# Altium footprint library Connector.PcbLib: 88 footprints (part 2 of 6)
Each footprint in its own frame and in the unit in brackets; x right, y up, seen from the top. Pads: shape width x height; smd on the part's side, far side on the other; paste and mask are expansions set on the pad; w line width, h text height; cw(c..) or ccw(c..) is an arc to the next point about the centre after c.
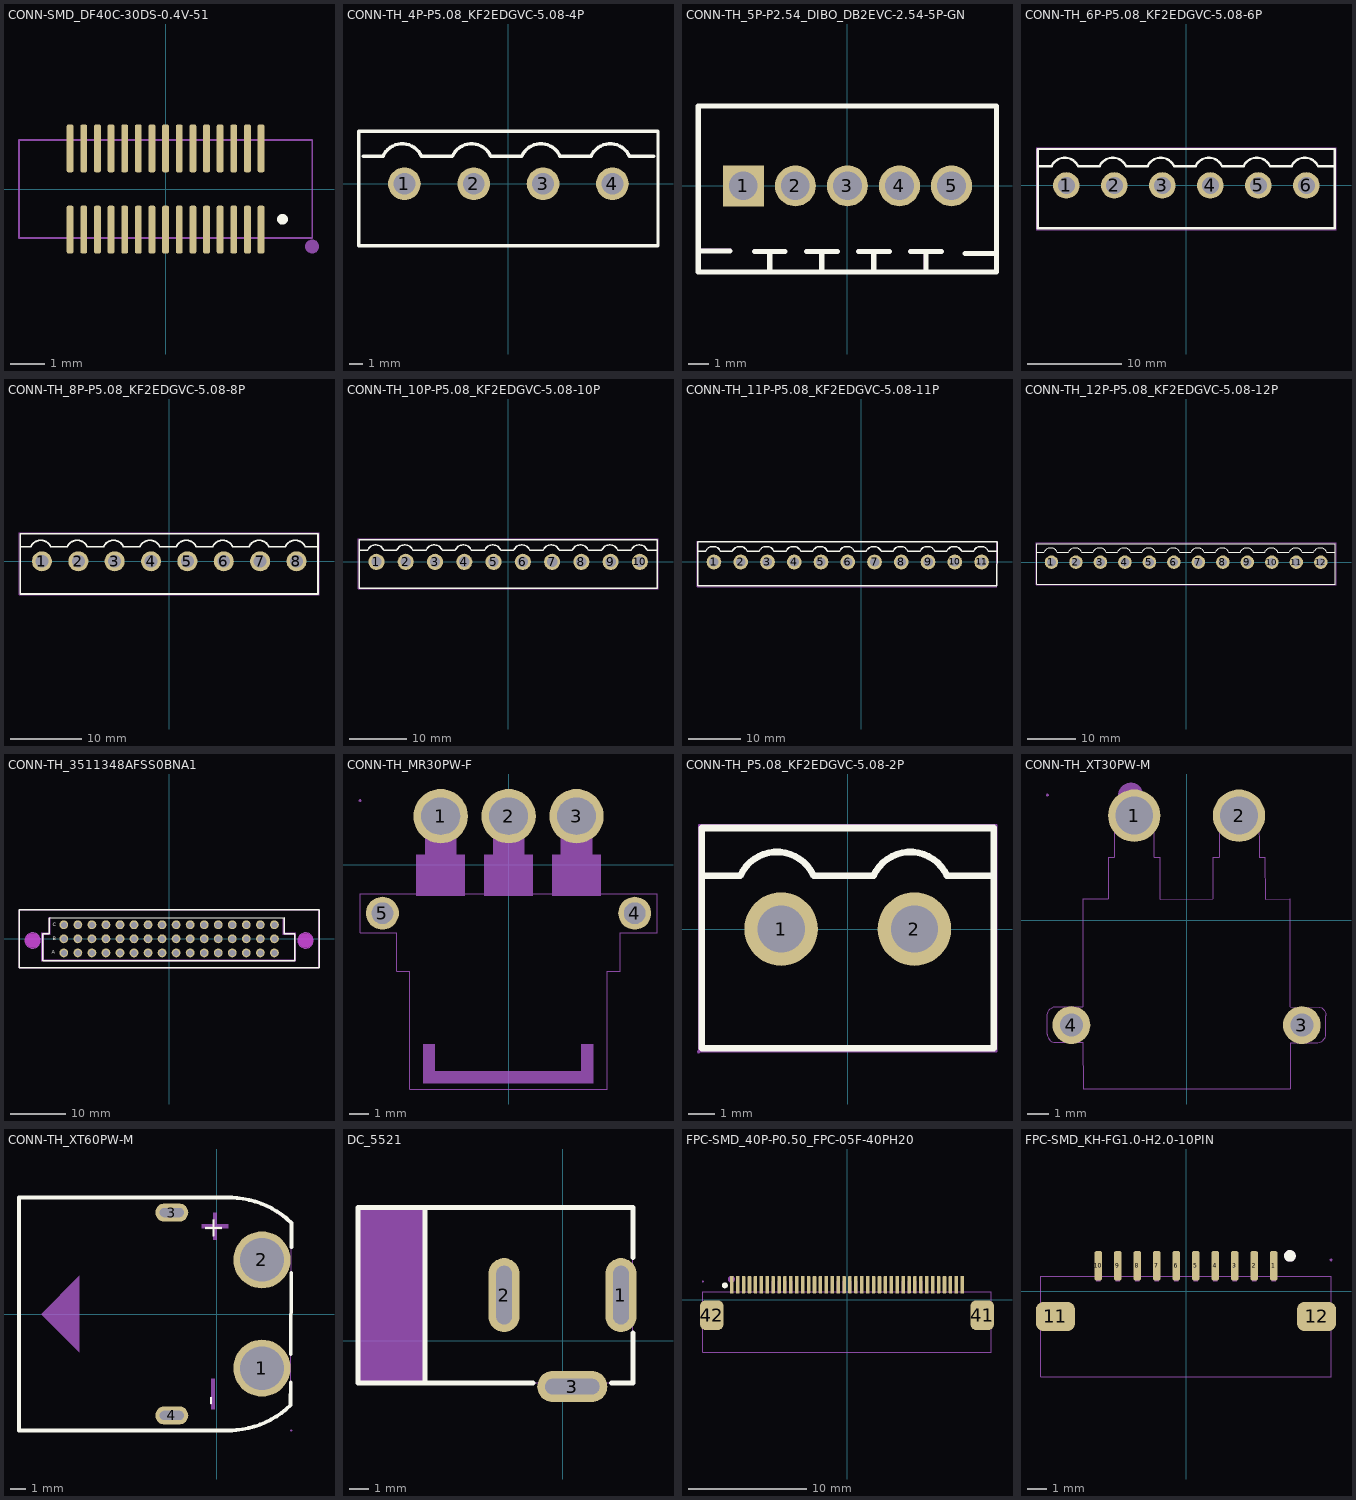
[diagram p1: the footprints below, top view; thin cyan lines are the x and y axes]

## CONN-SMD_DF40C-30DS-0.4V-51 [mm] "母座"
pads (30):
  rrect50% 0.2x1.4 smd paste+0 mask+0.05: 1(2.8,-1.19) 2(2.8,1.19) 3(2.4,-1.19) 4(2.4,1.19) 5(2,-1.19) 6(2,1.19) 7(1.6,-1.19) 8(1.6,1.19) 9(1.2,-1.19) 10(1.2,1.19) 11(0.8,-1.19) 12(0.8,1.19) 13(0.4,-1.19) 14(0.4,1.19) 15(0,-1.19) 16(0,1.19) 17(-0.4,-1.19) 18(-0.4,1.19) 19(-0.8,-1.19) 20(-0.8,1.19) 21(-1.2,-1.19) 22(-1.2,1.19) 23(-1.6,-1.19) 24(-1.6,1.19) 25(-2,-1.19) 26(-2,1.19) 27(-2.4,-1.19) 28(-2.4,1.19) 29(-2.8,-1.19) 30(-2.8,1.19)
Top Overlay:
  circle w0.254: c3.429,-0.889 r0.032
Mechanical 15:
  drawing of 35 lines, arcs and shapes, not listed
3D body "2.step": height 1.42, standoff -0.03, extent -4.3,-1.69 4.301,1.69

## CONN-TH_4P-P5.08_KF2EDGVC-5.08-4P [mm]
pads (4):
  round 2.4 hole 1.6 paste-2539.97 mask+0.051: 1(-7.62,0) 2(-2.54,0) 3(2.54,0) 4(7.62,0)
Top Overlay:
  lines w0.254: -10.64,2.032 -9.177,2.032 cw(c-7.78,1.407) -6.383,2.032 -4.097,2.032 cw(c-2.7,1.407) -1.303,2.032 0.983,2.032 cw(c2.38,1.407) 3.777,2.032 6.063,2.032 cw(c7.46,1.407) 8.857,2.032 10.64,2.032 ; 10.64,-4.55 10.96,-4.55 10.96,3.85 10.64,3.85 -10.64,3.85 -10.96,3.85 -10.96,-4.55 -10.64,-4.55 10.64,-4.55 ; 10.64,-4.55 10.64,-4.55
Mechanical 15:
  region: -10.9,-4.55 -10.9,-4.525 -10.935,-4.49 -10.985,-4.49 -11.02,-4.525 -11.02,-4.55 -11.02,-4.575 -10.985,-4.61 -10.935,-4.61 -10.9,-4.575 -10.9,-4.55
  region: -8.12,0.5 -7.12,0.5 -7.12,-0.5 -8.12,-0.5
  region: -3.04,0.5 -2.04,0.5 -2.04,-0.5 -3.04,-0.5
  region: 2.04,0.5 3.04,0.5 3.04,-0.5 2.04,-0.5
  region: 7.12,0.5 8.12,0.5 8.12,-0.5 7.12,-0.5
  lines w0.051: -10.96,-4.55 -10.96,3.85 10.96,3.85 10.96,-4.55 -10.96,-4.55

## CONN-TH_5P-P2.54_DIBO_DB2EVC-2.54-5P-GN [mm]
pads (5):
  rect 2x2 hole 1.4 paste-2539.97 mask+0.05: 1(-5.08,0)
  round 2 hole 1.4 paste-2539.97 mask+0.05: 2(-2.54,0) 3(0,0) 4(2.54,0) 5(5.08,0)
Top Overlay:
  lines w0.254: -7.23,-3.175 -5.73,-3.175 ; -6.48,-3.175 -6.434,-3.175 ; -4.54,-3.2 -3.04,-3.2 ; -3.79,-4.2 -3.79,-3.2 -3.744,-3.2 ; -2,-3.2 -0.5,-3.2 ; -1.25,-4.2 -1.25,-3.2 -1.204,-3.2 ; 0.54,-3.2 2.04,-3.2 ; 1.29,-4.2 1.29,-3.2 1.336,-3.2 ; 3.08,-3.2 4.58,-3.2 ; 3.83,-4.2 3.83,-3.2 3.876,-3.2 ; 5.75,-3.3 7.25,-3.3 ; 6.5,-3.3 6.546,-3.3 ; 7.28,-3.926 7.28,-4.2 ; 7.28,-4.2 7.28,3.9 -7.28,3.9 -7.28,-4.2 7.28,-4.2
Mechanical 6:
  region: 5.7,-3.2 7.3,-3.2 7.3,-3.4 5.7,-3.4
  region: -7.28,-3.075 -5.68,-3.075 -5.68,-3.275 -7.28,-3.275
  region: -4.59,-3.1 -2.99,-3.1 -2.99,-3.3 -4.59,-3.3
  region: -3.89,-3.1 -3.69,-3.1 -3.69,-4.1 -3.89,-4.1
  region: 3.03,-3.1 4.63,-3.1 4.63,-3.3 3.03,-3.3
  region: 3.73,-3.1 3.93,-3.1 3.93,-4.1 3.73,-4.1
  region: 0.49,-3.1 2.09,-3.1 2.09,-3.3 0.49,-3.3
  region: 1.19,-3.1 1.39,-3.1 1.39,-4.1 1.19,-4.1
  region: -1.35,-3.1 -1.15,-3.1 -1.15,-4.1 -1.35,-4.1
  region: -2.05,-3.1 -0.45,-3.1 -0.45,-3.3 -2.05,-3.3
Mechanical 15:
  region: -5.48,0.4 -4.68,0.4 -4.68,-0.4 -5.48,-0.4
  region: -2.94,0.4 -2.14,0.4 -2.14,-0.4 -2.94,-0.4
  region: -0.4,0.4 0.4,0.4 0.4,-0.4 -0.4,-0.4
  region: 2.14,0.4 2.94,0.4 2.94,-0.4 2.14,-0.4
  region: 4.68,0.4 5.48,0.4 5.48,-0.4 4.68,-0.4
  region: -7.22,-4.05 -7.22,-4.025 -7.255,-3.99 -7.305,-3.99 -7.34,-4.025 -7.34,-4.05 -7.34,-4.075 -7.305,-4.11 -7.255,-4.11 -7.22,-4.075 -7.22,-4.05
  lines w0.051: -7.28,-4.205 7.28,-4.205 7.28,3.895 -7.28,3.895 -7.28,-4.205

## CONN-TH_6P-P5.08_KF2EDGVC-5.08-6P [mm]
pads (6):
  round 2.8 hole 1.8 paste-2539.97 mask+0.051: 1(-12.7,0) 2(-7.62,0) 3(-2.54,0) 4(2.54,0) 5(7.62,0) 6(12.7,0)
Top Overlay:
  lines w0.254: -15.72,2.032 -14.257,2.032 cw(c-12.86,1.407) -11.463,2.032 -9.177,2.032 cw(c-7.78,1.407) -6.383,2.032 -4.097,2.032 cw(c-2.7,1.407) -1.303,2.032 0.983,2.032 cw(c2.38,1.407) 3.777,2.032 6.063,2.032 cw(c7.46,1.407) 8.857,2.032 11.143,2.032 cw(c12.54,1.407) 13.937,2.032 15.72,2.032 ; -15.72,-4.55 -15.72,3.85 15.72,3.85 15.72,-4.55 -15.72,-4.55
Mechanical 15:
  drawing of 11 lines, arcs and shapes, not listed

## CONN-TH_8P-P5.08_KF2EDGVC-5.08-8P [mm]
pads (8):
  round 2.8 hole 1.8 paste-2539.97 mask+0.051: 1(-17.78,0) 2(-12.7,0) 3(-7.62,0) 4(-2.54,0) 5(2.54,0) 6(7.62,0) 7(12.7,0) 8(17.78,0)
Top Overlay:
  lines w0.254: -20.8,2.032 -19.337,2.032 cw(c-17.94,1.407) -16.543,2.032 -14.257,2.032 cw(c-12.86,1.407) -11.463,2.032 -9.177,2.032 cw(c-7.78,1.407) -6.383,2.032 -4.097,2.032 cw(c-2.7,1.407) -1.303,2.032 0.983,2.032 cw(c2.38,1.407) 3.777,2.032 6.063,2.032 cw(c7.46,1.407) 8.857,2.032 11.143,2.032 cw(c12.54,1.407) 13.937,2.032 16.223,2.032 cw(c17.62,1.407) 19.017,2.032 ; 19.05,2.032 20.8,2.032 ; -20.8,-4.55 20.8,-4.55 20.8,3.85 -20.8,3.85 -20.8,-4.55
Mechanical 15:
  drawing of 13 lines, arcs and shapes, not listed

## CONN-TH_10P-P5.08_KF2EDGVC-5.08-10P [mm]
pads (10):
  round 2.8 hole 1.8 paste-2539.97 mask+0.051: 1(-22.86,0) 2(-17.78,0) 3(-12.7,0) 4(-7.62,0) 5(-2.54,0) 6(2.54,0) 7(7.62,0) 8(12.7,0) 9(17.78,0) 10(22.86,0)
Top Overlay:
  lines w0.254: -25.88,2.032 -24.417,2.032 cw(c-23.02,1.407) -21.623,2.032 -19.337,2.032 cw(c-17.94,1.407) -16.543,2.032 -14.257,2.032 cw(c-12.86,1.407) -11.463,2.032 -9.177,2.032 cw(c-7.78,1.407) -6.383,2.032 -4.097,2.032 cw(c-2.7,1.407) -1.303,2.032 0.983,2.032 cw(c2.38,1.407) 3.777,2.032 6.063,2.032 cw(c7.46,1.407) 8.857,2.032 11.143,2.032 cw(c12.54,1.407) 13.937,2.032 ; 13.97,2.032 16.256,2.032 cw(c17.653,1.407) 19.05,2.032 21.336,2.032 cw(c22.733,1.407) 24.13,2.032 25.877,2.032 ; -25.88,-4.55 25.88,-4.55 25.88,3.85 -25.88,3.85 -25.88,-4.55
Mechanical 15:
  drawing of 15 lines, arcs and shapes, not listed

## CONN-TH_11P-P5.08_KF2EDGVC-5.08-11P [mm]
pads (11):
  round 2.8 hole 1.8 paste-2539.97 mask+0.051: 1(-27.94,0) 2(-22.86,0) 3(-17.78,0) 4(-12.7,0) 5(-7.62,0) 6(-2.54,0) 7(2.54,0) 8(7.62,0) 9(12.7,0) 10(17.78,0) 11(22.86,0)
Top Overlay:
  lines w0.254: -30.96,2.032 -29.497,2.032 cw(c-28.1,1.407) -26.703,2.032 -24.417,2.032 cw(c-23.02,1.407) -21.623,2.032 -19.337,2.032 cw(c-17.94,1.407) -16.543,2.032 -14.257,2.032 cw(c-12.86,1.407) -11.463,2.032 -9.177,2.032 cw(c-7.78,1.407) -6.383,2.032 -4.097,2.032 cw(c-2.7,1.407) -1.303,2.032 0.983,2.032 cw(c2.38,1.407) 3.777,2.032 6.063,2.032 cw(c7.46,1.407) 8.857,2.032 ; 8.89,2.032 11.176,2.032 cw(c12.573,1.407) 13.97,2.032 16.256,2.032 cw(c17.653,1.407) 19.05,2.032 21.336,2.032 cw(c22.733,1.407) 24.13,2.032 ; 24.163,2.032 25.626,2.032 ; -30.96,-4.55 -30.96,3.85 25.781,3.85 25.781,-4.55 -30.96,-4.55
Mechanical 15:
  drawing of 16 lines, arcs and shapes, not listed

## CONN-TH_12P-P5.08_KF2EDGVC-5.08-12P [mm]
pads (12):
  round 2.8 hole 1.8 paste-2539.97 mask+0.051: 1(-27.94,0) 2(-22.86,0) 3(-17.78,0) 4(-12.7,0) 5(-7.62,0) 6(-2.54,0) 7(2.54,0) 8(7.62,0) 9(12.7,0) 10(17.78,0) 11(22.86,0) 12(27.94,0)
Top Overlay:
  lines w0.254: -30.96,2.032 -29.497,2.032 cw(c-28.1,1.407) -26.703,2.032 -24.417,2.032 cw(c-23.02,1.407) -21.623,2.032 -19.337,2.032 cw(c-17.94,1.407) -16.543,2.032 -14.257,2.032 cw(c-12.86,1.407) -11.463,2.032 -9.177,2.032 cw(c-7.78,1.407) -6.383,2.032 -4.097,2.032 cw(c-2.7,1.407) -1.303,2.032 0.983,2.032 cw(c2.38,1.407) 3.777,2.032 6.063,2.032 cw(c7.46,1.407) 8.857,2.032 ; 8.89,2.032 11.176,2.032 cw(c12.573,1.407) 13.97,2.032 16.256,2.032 cw(c17.653,1.407) 19.05,2.032 21.336,2.032 cw(c22.733,1.407) 24.13,2.032 26.416,2.032 cw(c27.813,1.407) 29.21,2.032 30.957,2.032 ; -30.96,-4.55 30.96,-4.55 30.96,3.85 -30.96,3.85 -30.96,-4.55
Mechanical 15:
  drawing of 17 lines, arcs and shapes, not listed

## CONN-TH_3511348AFSS0BNA1 [mm]
pads (48):
  round 1.6 hole 1.1 paste-2539.97 mask+0.051: A1(-19.05,-2.54) A2(-16.51,-2.54) A3(-13.97,-2.54) A4(-11.43,-2.54) A5(-8.89,-2.54) A6(-6.35,-2.54) A7(-3.81,-2.54) A8(-1.27,-2.54) A9(1.27,-2.54) A10(3.81,-2.54) A11(6.35,-2.54) A12(8.89,-2.54) A13(11.43,-2.54) A14(13.97,-2.54) A15(16.51,-2.54) A16(19.05,-2.54) B1(-19.05,0) B2(-16.51,0) B3(-13.97,0) B4(-11.43,0) B5(-8.89,0) B6(-6.35,0) B7(-3.81,0) B8(-1.27,0) B9(1.27,0) B10(3.81,0) B11(6.35,0) B12(8.89,0) B13(11.43,0) B14(13.97,0) B15(16.51,0) B16(19.05,0) C1(-19.05,2.54) C2(-16.51,2.54) C3(-13.97,2.54) C4(-11.43,2.54) C5(-8.89,2.54) C6(-6.35,2.54) C7(-3.81,2.54) C8(-1.27,2.54) C9(1.27,2.54) C10(3.81,2.54) C11(6.35,2.54) C12(8.89,2.54) C13(11.43,2.54) C14(13.97,2.54) C15(16.51,2.54) C16(19.05,2.54)
Top Overlay:
  lines w0.254: 20.8,3.4 20.8,3.8 -21.7,3.7 -21.654,0.9 -22.9,0.9 -22.9,-4 22.7,-4 22.7,0.9 20.8,0.9 20.8,3.7 ; -27.12,-5.25 -27.12,5.25 27.12,5.25 27.12,-5.25 -27.12,-5.25
  text "A" at -21.215,-2.736 h0.65
  text "C" at -21.082,2.251 h0.65
  text "B" at -21.082,-0.289 h0.65
Keep-Out Layer:
  board cut-out: 26.08,-0.3 26.08,-0.116 25.984,0.24 25.8,0.559 25.54,0.82 25.22,1.004 24.864,1.1 24.496,1.1 24.14,1.004 23.82,0.82 23.56,0.559 23.375,0.24 23.28,-0.116 23.28,-0.3 23.28,-0.485 23.375,-0.841 23.56,-1.16 23.82,-1.421 24.14,-1.605 24.496,-1.7 24.864,-1.7 25.22,-1.605 25.54,-1.421 25.8,-1.16 25.984,-0.841 26.08,-0.485 26.08,-0.3
  board cut-out: -23.28,-0.3 -23.28,-0.116 -23.375,0.24 -23.56,0.559 -23.82,0.82 -24.14,1.004 -24.496,1.1 -24.864,1.1 -25.22,1.004 -25.54,0.82 -25.8,0.559 -25.984,0.24 -26.08,-0.116 -26.08,-0.3 -26.08,-0.485 -25.984,-0.841 -25.8,-1.16 -25.54,-1.421 -25.22,-1.605 -24.864,-1.7 -24.496,-1.7 -24.14,-1.605 -23.82,-1.421 -23.56,-1.16 -23.375,-0.841 -23.28,-0.485 -23.28,-0.3
Mechanical 1:
  circle w0.005: c24.68,-0.3 r1.4
  circle w0.005: c-24.68,-0.3 r1.4
Mechanical 6:
  circle w1.3: c-24.68,-0.3 r0.65
  circle w1.3: c24.68,-0.3 r0.65
  region: 20.6,3.5 20.6,0.7 22.6,0.7 22.6,-3.8 -22.7,-3.8 -22.7,0.7 -21.5,0.7 -21.5,3.5 -21.5,3.9 -21.8,3.9 -21.8,1.1 -23.1,1.1 -23.1,-4.1 22.9,-4.1 22.9,1.1 20.9,1.1 20.9,3.6 20.6,3.6
Mechanical 15:
  drawing of 53 lines, arcs and shapes, not listed

## CONN-TH_MR30PW-F [mm]
pads (5):
  round 2.8 hole 1.9 slot 1.995 at 0 deg paste-2539.97 mask+0.05: 1(-3.5,2.5) 2(0,2.5) 3(3.5,2.5)
  round 1.7 hole 1.1 slot 1.1 at 0 deg paste-2539.97 mask+0.05: 4(6.5,-2.5) 5(-6.5,-2.5)
Mechanical 6:
  region: -4.4,-9.25 -4.4,-11.25 4.35,-11.25 4.35,-9.25 3.75,-9.25 3.75,-10.65 -3.8,-10.65 -3.8,-9.25
Mechanical 15:
  drawing of 21 lines, arcs and shapes, not listed
3D body "MR30PW-FB v2.step": height 4.84, standoff -2.03, extent -7.658,-11.621 7.658,3.592

## CONN-TH_P5.08_KF2EDGVC-5.08-2P [mm]
pads (2):
  round 2.8 hole 1.8 paste-2539.97 mask+0.051: 1(-2.54,0) 2(2.54,0)
Top Overlay:
  lines w0.254: -5.56,2.032 -4.097,2.032 cw(c-2.7,1.407) -1.303,2.032 0.983,2.032 cw(c2.38,1.407) 3.777,2.032 5.56,2.032 ; -5.56,-4.55 -5.56,3.85 5.56,3.85 5.56,-4.55 -5.56,-4.55
Mechanical 15:
  region: 3.34,0 3.34,0.105 3.285,0.309 3.18,0.491 3.031,0.64 2.849,0.745 2.645,0.8 2.435,0.8 2.231,0.745 2.049,0.64 1.9,0.491 1.795,0.309 1.74,0.105 1.74,0 1.74,-0.105 1.795,-0.309 1.9,-0.491 2.049,-0.64 2.231,-0.745 2.435,-0.8 2.645,-0.8 2.849,-0.745 3.031,-0.64 3.18,-0.491 3.285,-0.309 3.34,-0.105 3.34,0
  region: -1.74,0 -1.74,0.105 -1.795,0.309 -1.9,0.491 -2.049,0.64 -2.231,0.745 -2.435,0.8 -2.645,0.8 -2.849,0.745 -3.031,0.64 -3.18,0.491 -3.285,0.309 -3.34,0.105 -3.34,0 -3.34,-0.105 -3.285,-0.309 -3.18,-0.491 -3.031,-0.64 -2.849,-0.745 -2.645,-0.8 -2.435,-0.8 -2.231,-0.745 -2.049,-0.64 -1.9,-0.491 -1.795,-0.309 -1.74,-0.105 -1.74,0
  region: -5.627,-4.677 -5.627,-4.652 -5.662,-4.617 -5.712,-4.617 -5.747,-4.652 -5.747,-4.677 -5.747,-4.702 -5.712,-4.737 -5.662,-4.737 -5.627,-4.702 -5.627,-4.677
  lines w0.051: -5.687,-4.677 5.687,-4.677 5.687,3.977 -5.687,3.977 -5.687,-4.677

## CONN-TH_XT30PW-M [mm]
pads (4):
  round 2.5 hole 1.8: 1(-2.5,5) 2(2.5,5)
  round 1.8 hole 1.1: 3(5.5,-5) 4(-5.5,-5)
Mechanical 6:
  circle w0.6: c-2.667,5.969 r0.3
Mechanical 15:
  drawing of 94 lines, arcs and shapes, not listed
3D body "XT30PW-M.step": height 5.08, standoff -1.92, extent -6.65,-7.98 6.65,5.97

## CONN-TH_XT60PW-M [mm]
pads (4):
  round 3.8 hole 2.9 paste-2539.97 mask+0.05: 1(3,-3.6) 2(3,3.6)
  oval 2.2x1.2 hole 0.6 slot 1.6 at 0 deg paste-2539.97 mask+0.05: 3(-3,6.75) 4(-3,-6.75)
Top Overlay:
  lines w0.254: 0.889,-7.747 ccw(c0.746,-1.749) 4.917,-6.062 ; 0.937,7.747 cw(c0.794,1.749) 4.965,6.062 4.956,4.441 ; 1,-7.75 -13.166,-7.75 -13.166,7.75 1,7.75 ; 4.902,-5.994 4.909,-4.544 ; 4.919,-2.676 4.947,2.738
  text "+" at 0.364,4.953 h1.33
  text "-" at 0.11,-6.096 h1.33
Mechanical 6:
  region: -0.381,-4.318 -0.127,-4.318 -0.127,-6.35 -0.381,-6.35
  region: -0.254,6.731 0,6.731 0,5.969 0.762,5.969 0.762,5.715 0,5.715 0,4.953 -0.254,4.953 -0.254,5.715 -1.016,5.715 -1.016,5.969 -0.254,5.969
  region: -9.144,2.54 -9.144,-2.54 -11.684,0
Mechanical 15:
  region: -2.4,-6.55 -2.4,-6.95 -3.6,-6.95 -3.6,-6.55
  region: -2.4,6.95 -2.4,6.55 -3.6,6.55 -3.6,6.95
  region: 4,-3.6 4,-3.468 3.932,-3.214 3.8,-2.986 3.614,-2.8 3.386,-2.668 3.132,-2.6 2.868,-2.6 2.614,-2.668 2.386,-2.8 2.2,-2.986 2.068,-3.214 2,-3.468 2,-3.6 2,-3.732 2.068,-3.986 2.2,-4.214 2.386,-4.4 2.614,-4.532 2.868,-4.6 3.132,-4.6 3.386,-4.532 3.614,-4.4 3.8,-4.214 3.932,-3.986 4,-3.732 4,-3.6
  region: 4,3.6 4,3.732 3.932,3.986 3.8,4.214 3.614,4.4 3.386,4.532 3.132,4.6 2.868,4.6 2.614,4.532 2.386,4.4 2.2,4.214 2.068,3.986 2,3.732 2,3.6 2,3.468 2.068,3.214 2.2,2.986 2.386,2.8 2.614,2.668 2.868,2.6 3.132,2.6 3.386,2.668 3.614,2.8 3.8,2.986 3.932,3.214 4,3.468 4,3.6
  region: 5.013,-7.747 5.013,-7.722 4.978,-7.687 4.928,-7.687 4.893,-7.722 4.893,-7.747 4.893,-7.772 4.928,-7.807 4.978,-7.807 5.013,-7.772 5.013,-7.747
  lines w0.051: -13.166,-7.747 -13.166,7.747 1.016,7.747 1.778,7.62 2.794,7.366 3.81,6.858 4.826,6.096 4.953,5.969 4.902,-5.994 4.699,-6.223 3.937,-6.858 3.175,-7.239 2.159,-7.493 1.143,-7.747 -13.166,-7.747
3D body "3D_PCB1_2023-12-04.step": height 8.18, standoff -2.92, extent -13.147,-7.747 4.953,7.753

## DC_5521 [mm] "DC_5521"
pads (3):
  oval 1.6x3.8 hole 0.8 slot 3 at 90 deg mask+0.051: 1(3,2.35) 2(-3,2.35)
  oval 3.6x1.6 hole 0.8 slot 2.8 at 0 deg mask+0.051: 3(0.5,-2.35)
Top Overlay:
  lines w0.254: -10.5,-2.159 -1.513,-2.159 ; -10.5,-2.15 -10.5,6.85 3.606,6.85 3.606,4.283 ; -7.05,-2.15 -7.05,6.85 ; 2.513,-2.159 3.606,-2.159 3.606,0.416
Mechanical 6:
  region: -10.5,6.7 -7.1,6.7 -7.1,-2.1 -10.5,-2.1
Mechanical 15:
  region: 1.5,-2.5 -0.5,-2.5 -0.5,-2.145 1.5,-2.145
  region: -0.5,-2.2 1.5,-2.2 1.5,-2.5 -0.5,-2.5
  region: -2.85,1.1 -3.15,1.1 -3.15,3.6 -2.85,3.6
  region: 2.85,3.6 3.15,3.6 3.15,1.1 2.85,1.1
  region: 3.54,6.85 3.54,6.825 3.575,6.79 3.625,6.79 3.66,6.825 3.66,6.85 3.66,6.875 3.625,6.91 3.575,6.91 3.54,6.875 3.54,6.85
  lines w0.051: -10.5,-2.15 -10.5,6.85 3.6,6.85 3.6,-2.15 -10.5,-2.15
3D body "dc5521 v0.step": height 10.83, standoff -3.77, extent -10.527,-2.35 3.923,7.075

## FPC-SMD_40P-P0.50_FPC-05F-40PH20 [mm]
pads (42):
  rrect50% 0.3x1.5 smd paste+0 mask+0.05: 1(-9.75,1.288) 2(-9.25,1.288) 3(-8.75,1.288) 4(-8.25,1.288) 5(-7.75,1.288) 6(-7.25,1.288) 7(-6.75,1.288) 8(-6.25,1.288) 9(-5.75,1.288) 10(-5.25,1.288) 11(-4.75,1.288) 12(-4.25,1.288) 13(-3.75,1.288) 14(-3.25,1.288) 15(-2.75,1.288) 16(-2.25,1.288) 17(-1.75,1.288) 18(-1.25,1.288) 19(-0.75,1.288) 20(-0.25,1.288) 21(0.25,1.288) 22(0.75,1.288) 23(1.25,1.288) 24(1.75,1.288) 25(2.25,1.288) 26(2.75,1.288) 27(3.25,1.288) 28(3.75,1.288) 29(4.25,1.288) 30(4.75,1.288) 31(5.25,1.288) 32(5.75,1.288) 33(6.25,1.288) 34(6.75,1.288) 35(7.25,1.288) 36(7.75,1.288) 37(8.25,1.288) 38(8.75,1.288) 39(9.25,1.288) 40(9.75,1.288)
  rrect50% 2x2.5 smd paste+0 mask+0.05: 41(11.44,-1.288) 42(-11.44,-1.288)
Top Overlay:
  circle w0.254: c-10.327,1.24 r0.127
Mechanical 6:
  circle w0.3: c-9.779,1.748 r0.15
Mechanical 15:
  drawing of 47 lines, arcs and shapes, not listed
3D body "fpc40p.step": height 2.01, standoff 0, extent -12.2,-4.064 12.2,1.536

## FPC-SMD_KH-FG1.0-H2.0-10PIN [mm]
pads (12):
  rrect50% 0.4x1.5 smd paste+0 mask+0.05: 1(4.5,1.3) 2(3.5,1.3) 3(2.5,1.3) 4(1.5,1.3) 5(0.5,1.3) 6(-0.5,1.3) 7(-1.5,1.3) 8(-2.5,1.3) 9(-3.5,1.3) 10(-4.5,1.3)
  rrect50% 2x1.5 smd paste+0 mask+0.05: 11(-6.7,-1.3) 12(6.7,-1.3)
Top Overlay:
  circle w0.3: c5.335,1.808 r0.15
Mechanical 6:
  circle w0.3: c5.335,1.808 r0.15
Mechanical 15:
  region: 7.51,1.6 7.51,1.625 7.475,1.66 7.425,1.66 7.39,1.625 7.39,1.6 7.39,1.575 7.425,1.54 7.475,1.54 7.51,1.575 7.51,1.6
  region: -4.4,0.5 -4.6,0.5 -4.6,1.6 -4.4,1.6
  region: -3.4,0.5 -3.6,0.5 -3.6,1.6 -3.4,1.6
  region: -2.4,0.5 -2.6,0.5 -2.6,1.6 -2.4,1.6
  region: -1.4,0.5 -1.6,0.5 -1.6,1.6 -1.4,1.6
  region: -0.4,0.5 -0.6,0.5 -0.6,1.6 -0.4,1.6
  region: 0.6,0.5 0.4,0.5 0.4,1.6 0.6,1.6
  region: 1.6,0.5 1.4,0.5 1.4,1.6 1.6,1.6
  region: 2.6,0.5 2.4,0.5 2.4,1.6 2.6,1.6
  region: 3.6,0.5 3.4,0.5 3.4,1.6 3.6,1.6
  region: 4.6,0.5 4.4,0.5 4.4,1.6 4.6,1.6
  region: -6.05,-1.75 -7.45,-1.75 -7.45,-0.75 -6.05,-0.75
  region: 7.45,-1.75 6.05,-1.75 6.05,-0.75 7.45,-0.75
  lines w0.051: -7.45,-4.4 -7.45,0.75 7.45,0.75 7.45,-4.4 -7.45,-4.4